# Altium integrated library RAK3172-8-SM-NI.IntLib: 1 symbol
Pins are listed as number, name and electrical type; pins without a type are passive.

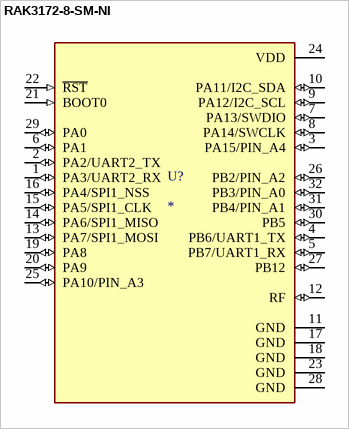
[diagram p0: symbol RAK3172-8-SM-NI]

## RAK3172-8-SM-NI
designator U?
RF IC Transceiver LoRaWAN 864MHz, 865MHz, 868MHz 2V ~ 3.6V Supply, Without IPEX Connector; MF: RAKwireless Technology Limited; MP: RAK3172-8-SM-NI; Package: None; Price: None; Check_prices: https://www.snapeda.com/parts/RAK3172-8-SM-NI/ESS+Technology/view-part/?ref=eda; Value: *; SnapEDA_Link: https://www.snapeda.com/parts/RAK3172-8-SM-NI/ESS+Technology/view-part/?ref=snap; Availability: In Stock; Purchase-URL: https://pricing.snapeda.com/search?q=RAK3172-8-SM-NI&ref=eda
footprint XCVR_RAK3172-8-SM-NI
pins: 1 PA3/UART2_RX (io), 2 PA2/UART2_TX (io), 3 PA15/PIN_A4 (io), 4 PB6/UART1_TX (io), 5 PB7/UART1_RX (io), 6 PA1 (io), 7 PA13/SWDIO (io), 8 PA14/SWCLK (io), 9 PA12/I2C_SCL (io), 10 PA11/I2C_SDA (io), 11 GND (power), 12 RF (io), 13 PA7/SPI1_MOSI (io), 14 PA6/SPI1_MISO (io), 15 PA5/SPI1_CLK (io), 16 PA4/SPI1_NSS (io), 17 GND (power), 18 GND (power), 19 PA8 (io), 20 PA9 (io), 21 BOOT0 (in), 22 ~{RST} (in), 23 GND (power), 24 VDD (power), 25 PA10/PIN_A3 (io), 26 PB2/PIN_A2 (io), 27 PB12 (io), 28 GND (power), 29 PA0 (io), 30 PB5 (io), 31 PB4/PIN_A1 (io), 32 PB3/PIN_A0 (io)